# Altium footprint library VCF4-1000.PcbLib: 1 footprints
Each footprint in its own frame and in the unit in brackets; x right, y up, seen from the top. Pads: shape width x height; smd on the part's side, far side on the other; paste and mask are expansions set on the pad; w line width, h text height; cw(c..) or ccw(c..) is an arc to the next point about the centre after c.
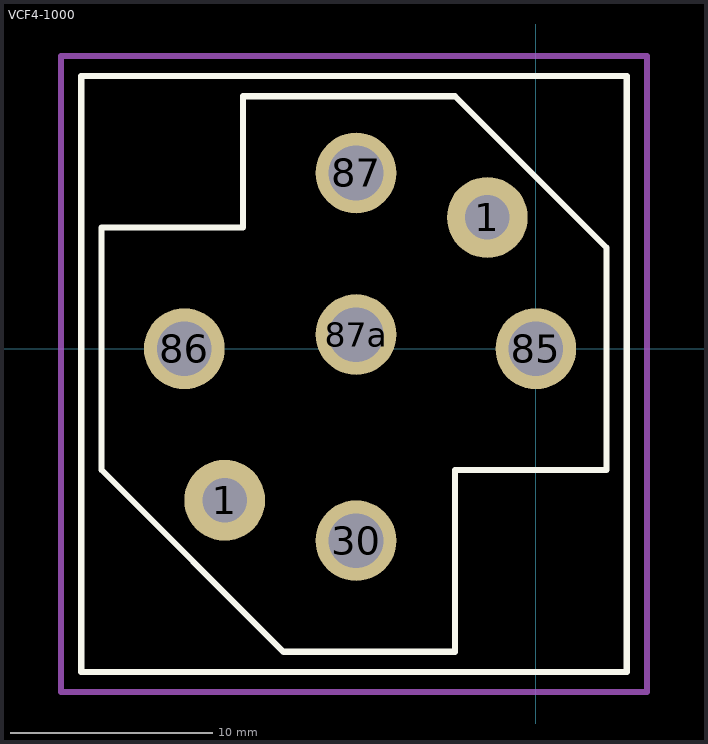
[diagram p0: the footprint, top view; thin cyan lines are the x and y axes]

## VCF4-1000 [mm]
pads (7):
  round 4 hole 2.2 mask+0.05: 1(-15.4,-7.5) 1(-2.4,6.5)
  round 4 hole 2.7 mask+0.05: 30(-8.9,-9.5) 85(0,0) 86(-17.4,0) 87(-8.9,8.7) 87a(-8.9,0.7)
Top Overlay:
  lines w0.3: -21.5,-6 -12.5,-15 ; -21.5,-6 -21.5,-4.5 -21.5,6 -14.5,6 -14.5,12.5 -4,12.5 3.5,5 3.5,-6 -4,-6 -4,-15 -12.5,-15 ; -21.5,-6 -12.5,-15 ; -22.5,-16 4.5,-16 4.5,13.5 -22.5,13.5 -22.5,-16
Top Courtyard:
  lines w0.3: -23.5,-17 5.5,-17 5.5,3 5.5,14.5 -23.5,14.5 -23.5,-17
3D body "c-2-1904045-4-a-3d.stp": height 14.5, standoff -5.34, extent -21,-14.5 3,12
3D body "c-1-1414167-0-s00f-3d.stp": height 40.9, standoff 5, extent -21.95,-14.45 3.95,11.45